# EAGLE library part 61001013321 (library Eagle_BOARD-TO-BOARD_CONNECTORS (rev18b))
WR-PHD 2.54mm SMT Socket Header, 10 Pins=>Code : CON_BTB_SHD_2.54_1_SMT_61001013321 <http://katalog.we-online.de/media/images/eican/Con_BTB_SHD_2.54_1_SMT_6100xx11921_pf2.jpg> Details see: http://katalog.we-online.de/en/em/PHD_2_54_SMT_SOCKET_HEADER_6100XXXXX21 Created 2014-05-30, Karrer Zheng 2014 (C) Würth Elektronik
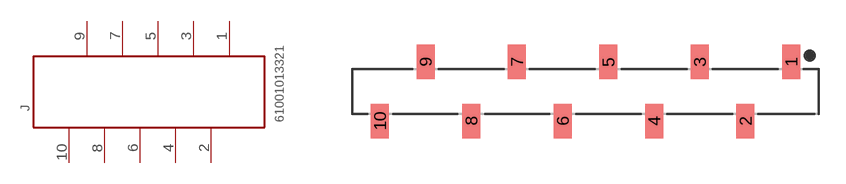
[diagram p195: symbol with the pads of 61001013321; footprint 61001013321]

Designator prefix J

## 61001013321  [61001013321]
1  10  pas
2  9  pas
3  8  pas
4  7  pas
5  6  pas
6  5  pas
7  4  pas
8  3  pas
9  2  pas
10  1  pas

## Footprint 61001013321 (pad centres in mm)
WR-PHD 2.54mm SMT Socket Header, 10 Pins
smd 1 x 1.91: 1 11.43,1.645; 2 8.89,-1.645; 3 6.35,1.645; 4 3.81,-1.645; 5 1.27,1.645; 6 -1.27,-1.645; 7 -3.81,1.645; 8 -6.35,-1.645; 9 -8.89,1.645; 10 -11.43,-1.645